# Altium integrated library pedal_stuff.IntLib: 2 symbols
Pins are listed as number, name and electrical type; pins without a type are passive.

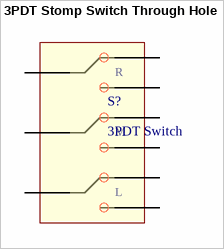
[diagram p0: symbol 3PDT Stomp Switch Through Hole]

## 3PDT Stomp Switch Through Hole
designator S?, comment 3PDT Switch
Link: http://www.taydaelectronics.com/3pdt-stomp-foot-pedal-switch-pcb.html
footprint stomp_switch (stomp switch 3PDT)
pins: 1 T11, 2 P1, 3 T12, 4 T21, 5 P2, 6 T22, 7 T31, 8 P3, 9 T32
text: R; M; L


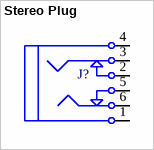
[diagram p1: symbol Stereo Plug]

## Stereo Plug
designator J?  (value not drawn)
Tayda Stereo Plug; Link: http://www.taydaelectronics.com/hardware/6-35mm-1-4-plugs-jacks/6-35mm-1-4-stereo-insulated-switched-socket-jack-pcb.html
footprint Stereo Jack (Tayda Stereo Jack)
pins: 1, 2, 3, 4, 5, 6